# Altium schematic symbol library AD8542ARMZ-REEL.SchLib: 1 symbol
Pins are listed as number, name and electrical type; pins without a type are passive.

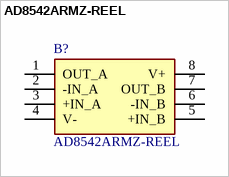
[diagram p0: symbol AD8542ARMZ-REEL]

## AD8542ARMZ-REEL
designator B?
Single-supply operation: 2.7 V to 5.5 V  Low supply current: 45 A/amplifier  Wide bandwidth: 1 MHz  No phase reversal  Low input currents: 4 pA  Unity gain stable  Rail-to-rail input and output  AEC-Q100 qualified for automotive applications; Manufacturer_Name: Analog Devices; Geometry.Height: 1.1mm; Manufacturer_Part_Number: AD8542ARMZ-REEL; Mouser Part Number: 584-AD8542ARMZ-R; Mouser Price/Stock: https://www.mouser.co.uk/ProductDetail/Analog-Devices/AD8542ARMZ-REEL?qs=%2FtpEQrCGXCzeOxAKFphJiQ%3D%3D; Arrow Part Number: AD8542ARMZ-REEL; Arrow Price/Stock: https://www.arrow.com/en/products/ad8542armz-reel/analog-devices?utm_currency=USD&region=nac; Datasheet Link: https://www.analog.com/AD8542/datasheet
footprint SOP65P490X110-8N
pins: 1 OUT_A, 2 -IN_A, 3 +IN_A, 4 V-, 5 +IN_B, 6 -IN_B, 7 OUT_B, 8 V+